# Altium integrated library Microchip Thermal Management.IntLib: 361 symbols (part 1 of 9)
Pins are listed as number, name and electrical type; pins without a type are passive.

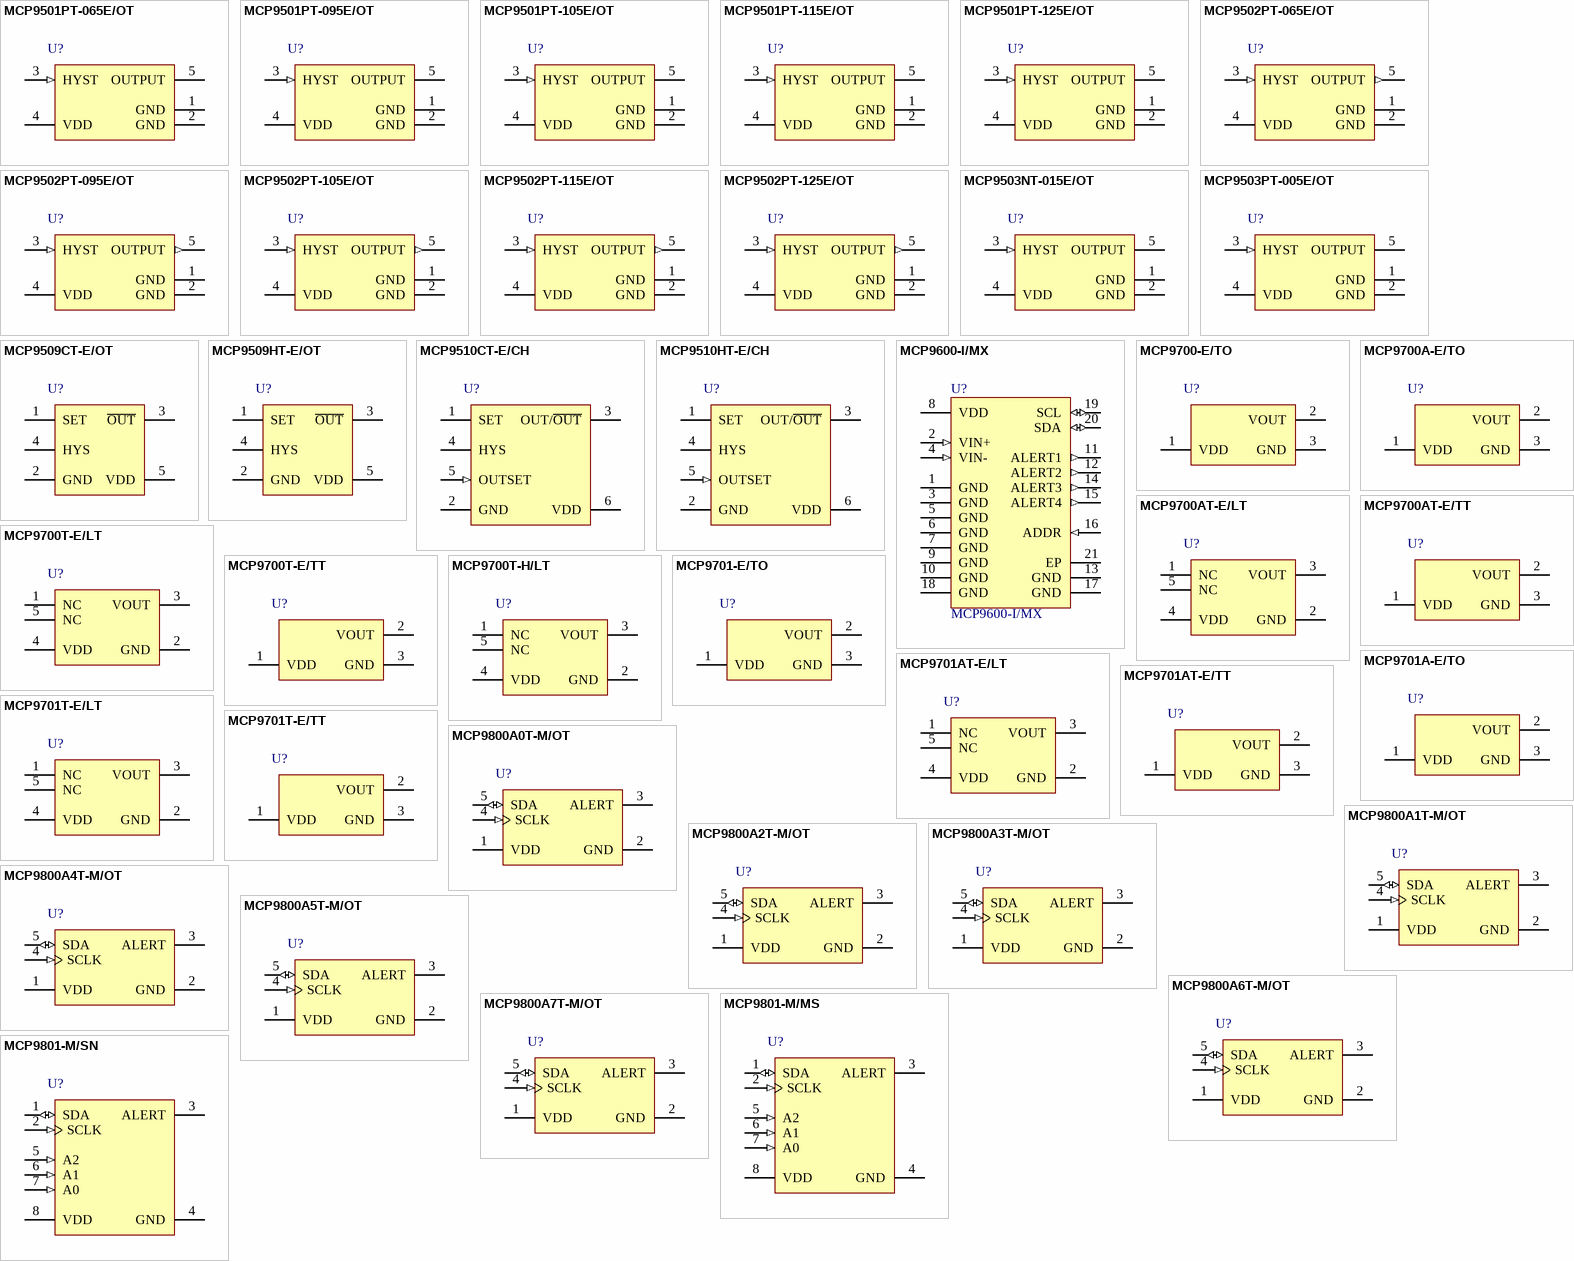
[diagram p0: symbols MCP9501PT-065E/OT to MCP9801-M/SN]

## MCP9501PT-065E/OT
designator U?
Temperature Switch with Selectable Hysteresis, 1 deg Typical Accuracy, 2.7 to 5.5 V Operating Voltage, -40 to 125 degC, 5-pin SOT-23 (OT5), Tape and Reel; Manufacturer: Microchip; PartNumber: MCP9501PT-065E/OT; DatasheetVersion: Rev. A; PackageVersion: C04-091B; PackageReference: SOT-23-OT5; PackageDescription: 5-Lead Plastic Small Outline Transistor, 2.9 x 1.55 mm Body, 0.95 mm Pitch; Supplier 1: Digi-Key; Supplier Part Number 1: MCP9501PT-065E/OTTR-ND; Mounting Technology: Surface Mount; ComponentLink1Description: Manufacturer URL; ComponentLink1URL: http://www.microchip.com; ComponentLink2Description: Datasheet; ComponentLink2URL: http://ww1.microchip.com/downloads/en/DeviceDoc/22268a.pdf; ComponentLink3Description: Package Specification; ComponentLink3URL: http://www.microchip.com/stellent/groups/techpub_sg/documents/packagingspec/en012702.pdf; ComponentLink4Description: Product URL; ComponentLink4URL: http://www.microchip.com/MCP9501
footprint MCHP-SOT-23-OT5_N (SOT23, 5-Leads, Body 2.9x1.55mm, Pitch 0.95mm, IPC Medium Density)
footprint MCHP-SOT-23-OT5_L (SOT23, 5-Leads, Body 2.9x1.55mm, Pitch 0.95mm, IPC High Density)
footprint MCHP-SOT-23-OT5_M (SOT23, 5-Leads, Body 2.9x1.55mm, Pitch 0.95mm, IPC Low Density)
pins: 1 GND (power) "Ground", 2 GND (power) "Ground (must be connected to ground)", 3 HYST (in) "Hysteresis Selection Input: HYST = GND ? Hysteresis is 2degreesC (typical) HYST = VDD ? Hysteresis is 10degreesC (typical)", 4 VDD (power) "Power pin", 5 OUTPUT (oc) "Output Options:Open-Drain, Active-Low Output"

## MCP9501PT-095E/OT
designator U?
Temperature Switch with Selectable Hysteresis, 1 deg Typical Accuracy, 2.7 to 5.5 V Operating Voltage, -40 to 125 degC, 5-pin SOT-23 (OT5), Tape and Reel; Manufacturer: Microchip; PartNumber: MCP9501PT-095E/OT; DatasheetVersion: Rev. A; PackageVersion: C04-091B; PackageReference: SOT-23-OT5; PackageDescription: 5-Lead Plastic Small Outline Transistor, 2.9 x 1.55 mm Body, 0.95 mm Pitch; Supplier 1: Digi-Key; Supplier Part Number 1: MCP9501PT-095E/OTTR-ND; Mounting Technology: Surface Mount; ComponentLink1Description: Manufacturer URL; ComponentLink1URL: http://www.microchip.com; ComponentLink2Description: Datasheet; ComponentLink2URL: http://ww1.microchip.com/downloads/en/DeviceDoc/22268a.pdf; ComponentLink3Description: Package Specification; ComponentLink3URL: http://www.microchip.com/stellent/groups/techpub_sg/documents/packagingspec/en012702.pdf; ComponentLink4Description: Product URL; ComponentLink4URL: http://www.microchip.com/MCP9501
footprint MCHP-SOT-23-OT5_N (SOT23, 5-Leads, Body 2.9x1.55mm, Pitch 0.95mm, IPC Medium Density)
footprint MCHP-SOT-23-OT5_L (SOT23, 5-Leads, Body 2.9x1.55mm, Pitch 0.95mm, IPC High Density)
footprint MCHP-SOT-23-OT5_M (SOT23, 5-Leads, Body 2.9x1.55mm, Pitch 0.95mm, IPC Low Density)
pins: 1 GND (power) "Ground", 2 GND (power) "Ground (must be connected to ground)", 3 HYST (in) "Hysteresis Selection Input: HYST = GND ? Hysteresis is 2degreesC (typical) HYST = VDD ? Hysteresis is 10degreesC (typical)", 4 VDD (power) "Power pin", 5 OUTPUT (oc) "Output Options:Open-Drain, Active-Low Output"

## MCP9501PT-105E/OT
designator U?
Temperature Switch with Selectable Hysteresis, 1 deg Typical Accuracy, 2.7 to 5.5 V Operating Voltage, -40 to 125 degC, 5-pin SOT-23 (OT5), Tape and Reel; Manufacturer: Microchip; PartNumber: MCP9501PT-105E/OT; DatasheetVersion: Rev. A; PackageVersion: C04-091B; PackageReference: SOT-23-OT5; PackageDescription: 5-Lead Plastic Small Outline Transistor, 2.9 x 1.55 mm Body, 0.95 mm Pitch; Supplier 1: Digi-Key; Supplier Part Number 1: MCP9501PT-105E/OTTR-ND; Mounting Technology: Surface Mount; ComponentLink1Description: Manufacturer URL; ComponentLink1URL: http://www.microchip.com; ComponentLink2Description: Datasheet; ComponentLink2URL: http://ww1.microchip.com/downloads/en/DeviceDoc/22268a_Final.pdf; ComponentLink3Description: Package Specification; ComponentLink3URL: http://www.microchip.com/stellent/groups/techpub_sg/documents/packagingspec/en012702.pdf; ComponentLink4Description: Product URL; ComponentLink4URL: http://www.microchip.com/MCP9501
footprint MCHP-SOT-23-OT5_N (SOT23, 5-Leads, Body 2.9x1.55mm, Pitch 0.95mm, IPC Medium Density)
footprint MCHP-SOT-23-OT5_L (SOT23, 5-Leads, Body 2.9x1.55mm, Pitch 0.95mm, IPC High Density)
footprint MCHP-SOT-23-OT5_M (SOT23, 5-Leads, Body 2.9x1.55mm, Pitch 0.95mm, IPC Low Density)
pins: 1 GND (power) "Ground", 2 GND (power) "Ground (must be connected to ground)", 3 HYST (in) "Hysteresis Selection Input: HYST = GND ? Hysteresis is 2degreesC (typical) HYST = VDD ? Hysteresis is 10degreesC (typical)", 4 VDD (power) "Power pin", 5 OUTPUT (oc) "Output Options:Open-Drain, Active-Low Output"

## MCP9501PT-115E/OT
designator U?
Temperature Switch with Selectable Hysteresis, 1 deg Typical Accuracy, 2.7 to 5.5 V Operating Voltage, -40 to 125 degC, 5-pin SOT-23 (OT5), Tape and Reel; Manufacturer: Microchip; PartNumber: MCP9501PT-115E/OT; DatasheetVersion: Rev. A; PackageVersion: C04-091B; PackageReference: SOT-23-OT5; PackageDescription: 5-Lead Plastic Small Outline Transistor, 2.9 x 1.55 mm Body, 0.95 mm Pitch; Supplier 1: Digi-Key; Supplier Part Number 1: MCP9501PT-115E/OTTR-ND; Mounting Technology: Surface Mount; ComponentLink1Description: Manufacturer URL; ComponentLink1URL: http://www.microchip.com; ComponentLink2Description: Datasheet; ComponentLink2URL: http://ww1.microchip.com/downloads/en/DeviceDoc/22268a_Final.pdf; ComponentLink3Description: Package Specification; ComponentLink3URL: http://www.microchip.com/stellent/groups/techpub_sg/documents/packagingspec/en012702.pdf; ComponentLink4Description: Product URL; ComponentLink4URL: http://www.microchip.com/MCP9501
footprint MCHP-SOT-23-OT5_N (SOT23, 5-Leads, Body 2.9x1.55mm, Pitch 0.95mm, IPC Medium Density)
footprint MCHP-SOT-23-OT5_L (SOT23, 5-Leads, Body 2.9x1.55mm, Pitch 0.95mm, IPC High Density)
footprint MCHP-SOT-23-OT5_M (SOT23, 5-Leads, Body 2.9x1.55mm, Pitch 0.95mm, IPC Low Density)
pins: 1 GND (power) "Ground", 2 GND (power) "Ground (must be connected to ground)", 3 HYST (in) "Hysteresis Selection Input: HYST = GND ? Hysteresis is 2degreesC (typical) HYST = VDD ? Hysteresis is 10degreesC (typical)", 4 VDD (power) "Power pin", 5 OUTPUT (oc) "Output Options:Open-Drain, Active-Low Output"

## MCP9501PT-125E/OT
designator U?
Temperature Switch with Selectable Hysteresis, 1 deg Typical Accuracy, 2.7 to 5.5 V Operating Voltage, -40 to 125 degC, 5-pin SOT-23 (OT5), Tape and Reel; Manufacturer: Microchip; PartNumber: MCP9501PT-125E/OT; DatasheetVersion: Rev. A; PackageVersion: C04-091B; PackageReference: SOT-23-OT5; PackageDescription: 5-Lead Plastic Small Outline Transistor, 2.9 x 1.55 mm Body, 0.95 mm Pitch; Supplier 1: Digi-Key; Supplier Part Number 1: MCP9501PT-125E/OTTR-ND; Mounting Technology: Surface Mount; ComponentLink1Description: Manufacturer URL; ComponentLink1URL: http://www.microchip.com; ComponentLink2Description: Datasheet; ComponentLink2URL: http://ww1.microchip.com/downloads/en/DeviceDoc/22268a_Final.pdf; ComponentLink3Description: Package Specification; ComponentLink3URL: http://www.microchip.com/stellent/groups/techpub_sg/documents/packagingspec/en012702.pdf; ComponentLink4Description: Product URL; ComponentLink4URL: http://www.microchip.com/MCP9501
footprint MCHP-SOT-23-OT5_N (SOT23, 5-Leads, Body 2.9x1.55mm, Pitch 0.95mm, IPC Medium Density)
footprint MCHP-SOT-23-OT5_L (SOT23, 5-Leads, Body 2.9x1.55mm, Pitch 0.95mm, IPC High Density)
footprint MCHP-SOT-23-OT5_M (SOT23, 5-Leads, Body 2.9x1.55mm, Pitch 0.95mm, IPC Low Density)
pins: 1 GND (power) "Ground", 2 GND (power) "Ground (must be connected to ground)", 3 HYST (in) "Hysteresis Selection Input: HYST = GND ? Hysteresis is 2degreesC (typical) HYST = VDD ? Hysteresis is 10degreesC (typical)", 4 VDD (power) "Power pin", 5 OUTPUT (oc) "Output Options:Open-Drain, Active-Low Output"

## MCP9502PT-065E/OT
designator U?
Temperature Switch with Selectable Hysteresis, 1 deg Typical Accuracy, 2.7 to 5.5 V Operating Voltage, -40 to 125 degC, 5-pin SOT-23 (OT5), Tape and Reel; Manufacturer: Microchip; PartNumber: MCP9502PT-065E/OT; DatasheetVersion: Rev. A; PackageVersion: C04-091B; PackageReference: SOT-23-OT5; PackageDescription: 5-Lead Plastic Small Outline Transistor, 2.9 x 1.55 mm Body, 0.95 mm Pitch; Supplier 1: Digi-Key; Supplier Part Number 1: MCP9502PT-065E/OTTR-ND; Mounting Technology: Surface Mount; ComponentLink1Description: Manufacturer URL; ComponentLink1URL: http://www.microchip.com; ComponentLink2Description: Datasheet; ComponentLink2URL: http://ww1.microchip.com/downloads/en/DeviceDoc/22268a.pdf; ComponentLink3Description: Package Specification; ComponentLink3URL: http://www.microchip.com/stellent/groups/techpub_sg/documents/packagingspec/en012702.pdf; ComponentLink4Description: Product URL; ComponentLink4URL: http://www.microchip.com/MCP9502
footprint MCHP-SOT-23-OT5_N (SOT23, 5-Leads, Body 2.9x1.55mm, Pitch 0.95mm, IPC Medium Density)
footprint MCHP-SOT-23-OT5_L (SOT23, 5-Leads, Body 2.9x1.55mm, Pitch 0.95mm, IPC High Density)
footprint MCHP-SOT-23-OT5_M (SOT23, 5-Leads, Body 2.9x1.55mm, Pitch 0.95mm, IPC Low Density)
pins: 1 GND (power) "Ground", 2 GND (power) "Ground (must be connected to ground)", 3 HYST (in) "Hysteresis Selection Input: HYST = GND ? Hysteresis is 2degreesC (typical) HYST = VDD ? Hysteresis is 10degreesC (typical)", 4 VDD (power) "Power pin", 5 OUTPUT (out) "Output Options:Push-Pull, Active-High Output (Hot-Option)"

## MCP9502PT-095E/OT
designator U?
Temperature Switch with Selectable Hysteresis, 1 deg Typical Accuracy, 2.7 to 5.5 V Operating Voltage, -40 to 125 degC, 5-pin SOT-23 (OT5), Tape and Reel; Manufacturer: Microchip; PartNumber: MCP9502PT-095E/OT; DatasheetVersion: Rev. A; PackageVersion: C04-091B; PackageReference: SOT-23-OT5; PackageDescription: 5-Lead Plastic Small Outline Transistor, 2.9 x 1.55 mm Body, 0.95 mm Pitch; Supplier 1: Digi-Key; Supplier Part Number 1: MCP9502PT-095E/OTTR-ND; Mounting Technology: Surface Mount; ComponentLink1Description: Manufacturer URL; ComponentLink1URL: http://www.microchip.com; ComponentLink2Description: Datasheet; ComponentLink2URL: http://ww1.microchip.com/downloads/en/DeviceDoc/22268a_Final.pdf; ComponentLink3Description: Package Specification; ComponentLink3URL: http://www.microchip.com/stellent/groups/techpub_sg/documents/packagingspec/en012702.pdf; ComponentLink4Description: Product URL; ComponentLink4URL: http://www.microchip.com/MCP9502
footprint MCHP-SOT-23-OT5_N (SOT23, 5-Leads, Body 2.9x1.55mm, Pitch 0.95mm, IPC Medium Density)
footprint MCHP-SOT-23-OT5_L (SOT23, 5-Leads, Body 2.9x1.55mm, Pitch 0.95mm, IPC High Density)
footprint MCHP-SOT-23-OT5_M (SOT23, 5-Leads, Body 2.9x1.55mm, Pitch 0.95mm, IPC Low Density)
pins: 1 GND (power) "Ground", 2 GND (power) "Ground (must be connected to ground)", 3 HYST (in) "Hysteresis Selection Input: HYST = GND ? Hysteresis is 2degreesC (typical) HYST = VDD ? Hysteresis is 10degreesC (typical)", 4 VDD (power) "Power pin", 5 OUTPUT (out) "Output Options:Push-Pull, Active-High Output (Hot-Option)"

## MCP9502PT-105E/OT
designator U?
Temperature Switch with Selectable Hysteresis, 1 deg Typical Accuracy, 2.7 to 5.5 V Operating Voltage, -40 to 125 degC, 5-pin SOT-23 (OT5), Tape and Reel; Manufacturer: Microchip; PartNumber: MCP9502PT-105E/OT; DatasheetVersion: Rev. A; PackageVersion: C04-091B; PackageReference: SOT-23-OT5; PackageDescription: 5-Lead Plastic Small Outline Transistor, 2.9 x 1.55 mm Body, 0.95 mm Pitch; Supplier 1: Digi-Key; Supplier Part Number 1: MCP9502PT-105E/OTTR-ND; Mounting Technology: Surface Mount; ComponentLink1Description: Manufacturer URL; ComponentLink1URL: http://www.microchip.com; ComponentLink2Description: Datasheet; ComponentLink2URL: http://ww1.microchip.com/downloads/en/DeviceDoc/22268a_Final.pdf; ComponentLink3Description: Package Specification; ComponentLink3URL: http://www.microchip.com/stellent/groups/techpub_sg/documents/packagingspec/en012702.pdf; ComponentLink4Description: Product URL; ComponentLink4URL: http://www.microchip.com/MCP9502
footprint MCHP-SOT-23-OT5_N (SOT23, 5-Leads, Body 2.9x1.55mm, Pitch 0.95mm, IPC Medium Density)
footprint MCHP-SOT-23-OT5_L (SOT23, 5-Leads, Body 2.9x1.55mm, Pitch 0.95mm, IPC High Density)
footprint MCHP-SOT-23-OT5_M (SOT23, 5-Leads, Body 2.9x1.55mm, Pitch 0.95mm, IPC Low Density)
pins: 1 GND (power) "Ground", 2 GND (power) "Ground (must be connected to ground)", 3 HYST (in) "Hysteresis Selection Input: HYST = GND ? Hysteresis is 2degreesC (typical) HYST = VDD ? Hysteresis is 10degreesC (typical)", 4 VDD (power) "Power pin", 5 OUTPUT (out) "Output Options:Push-Pull, Active-High Output (Hot-Option)"

## MCP9502PT-115E/OT
designator U?
Temperature Switch with Selectable Hysteresis, 1 deg Typical Accuracy, 2.7 to 5.5 V Operating Voltage, -40 to 125 degC, 5-pin SOT-23 (OT5), Tape and Reel; Manufacturer: Microchip; PartNumber: MCP9502PT-115E/OT; DatasheetVersion: Rev. A; PackageVersion: C04-091B; PackageReference: SOT-23-OT5; PackageDescription: 5-Lead Plastic Small Outline Transistor, 2.9 x 1.55 mm Body, 0.95 mm Pitch; Supplier 1: Digi-Key; Supplier Part Number 1: MCP9502PT-115E/OTTR-ND; Mounting Technology: Surface Mount; ComponentLink1Description: Manufacturer URL; ComponentLink1URL: http://www.microchip.com; ComponentLink2Description: Datasheet; ComponentLink2URL: http://ww1.microchip.com/downloads/en/DeviceDoc/22268a_Final.pdf; ComponentLink3Description: Package Specification; ComponentLink3URL: http://www.microchip.com/stellent/groups/techpub_sg/documents/packagingspec/en012702.pdf; ComponentLink4Description: Product URL; ComponentLink4URL: http://www.microchip.com/MCP9502
footprint MCHP-SOT-23-OT5_N (SOT23, 5-Leads, Body 2.9x1.55mm, Pitch 0.95mm, IPC Medium Density)
footprint MCHP-SOT-23-OT5_L (SOT23, 5-Leads, Body 2.9x1.55mm, Pitch 0.95mm, IPC High Density)
footprint MCHP-SOT-23-OT5_M (SOT23, 5-Leads, Body 2.9x1.55mm, Pitch 0.95mm, IPC Low Density)
pins: 1 GND (power) "Ground", 2 GND (power) "Ground (must be connected to ground)", 3 HYST (in) "Hysteresis Selection Input: HYST = GND ? Hysteresis is 2degreesC (typical) HYST = VDD ? Hysteresis is 10degreesC (typical)", 4 VDD (power) "Power pin", 5 OUTPUT (out) "Output Options:Push-Pull, Active-High Output (Hot-Option)"

## MCP9502PT-125E/OT
designator U?
Temperature Switch with Selectable Hysteresis, 1 deg Typical Accuracy, 2.7 to 5.5 V Operating Voltage, -40 to 125 degC, 5-pin SOT-23 (OT5), Tape and Reel; Manufacturer: Microchip; PartNumber: MCP9502PT-125E/OT; DatasheetVersion: Rev. A; PackageVersion: C04-091B; PackageReference: SOT-23-OT5; PackageDescription: 5-Lead Plastic Small Outline Transistor, 2.9 x 1.55 mm Body, 0.95 mm Pitch; Supplier 1: Digi-Key; Supplier Part Number 1: MCP9502PT-125E/OTTR-ND; Mounting Technology: Surface Mount; ComponentLink1Description: Manufacturer URL; ComponentLink1URL: http://www.microchip.com; ComponentLink2Description: Datasheet; ComponentLink2URL: http://ww1.microchip.com/downloads/en/DeviceDoc/22268a.pdf; ComponentLink3Description: Package Specification; ComponentLink3URL: http://www.microchip.com/stellent/groups/techpub_sg/documents/packagingspec/en012702.pdf; ComponentLink4Description: Product URL; ComponentLink4URL: http://www.microchip.com/MCP9502
footprint MCHP-SOT-23-OT5_N (SOT23, 5-Leads, Body 2.9x1.55mm, Pitch 0.95mm, IPC Medium Density)
footprint MCHP-SOT-23-OT5_L (SOT23, 5-Leads, Body 2.9x1.55mm, Pitch 0.95mm, IPC High Density)
footprint MCHP-SOT-23-OT5_M (SOT23, 5-Leads, Body 2.9x1.55mm, Pitch 0.95mm, IPC Low Density)
pins: 1 GND (power) "Ground", 2 GND (power) "Ground (must be connected to ground)", 3 HYST (in) "Hysteresis Selection Input: HYST = GND ? Hysteresis is 2degreesC (typical) HYST = VDD ? Hysteresis is 10degreesC (typical)", 4 VDD (power) "Power pin", 5 OUTPUT (out) "Output Options:Push-Pull, Active-High Output (Hot-Option)"

## MCP9503NT-015E/OT
designator U?
Temperature Switch with Selectable Hysteresis, 1 deg Typical Accuracy, 2.7 to 5.5 V Operating Voltage, -40 to 125 degC, 5-pin SOT-23 (OT5), Tape and Reel; Manufacturer: Microchip; PartNumber: MCP9503NT-015E/OT; DatasheetVersion: Rev. A; PackageVersion: C04-091B; PackageReference: SOT-23-OT5; PackageDescription: 5-Lead Plastic Small Outline Transistor, 2.9 x 1.55 mm Body, 0.95 mm Pitch; Supplier 1: Digi-Key; Supplier Part Number 1: MCP9503NT-015E/OTTR-ND; Mounting Technology: Surface Mount; ComponentLink1Description: Manufacturer URL; ComponentLink1URL: http://www.microchip.com; ComponentLink2Description: Datasheet; ComponentLink2URL: http://ww1.microchip.com/downloads/en/DeviceDoc/22268a_Final.pdf; ComponentLink3Description: Package Specification; ComponentLink3URL: http://www.microchip.com/stellent/groups/techpub_sg/documents/packagingspec/en012702.pdf; ComponentLink4Description: Product URL; ComponentLink4URL: http://www.microchip.com/MCP9503
footprint MCHP-SOT-23-OT5_N (SOT23, 5-Leads, Body 2.9x1.55mm, Pitch 0.95mm, IPC Medium Density)
footprint MCHP-SOT-23-OT5_L (SOT23, 5-Leads, Body 2.9x1.55mm, Pitch 0.95mm, IPC High Density)
footprint MCHP-SOT-23-OT5_M (SOT23, 5-Leads, Body 2.9x1.55mm, Pitch 0.95mm, IPC Low Density)
pins: 1 GND (power) "Ground", 2 GND (power) "Ground (must be connected to ground)", 3 HYST (in) "Hysteresis Selection Input: HYST = GND ? Hysteresis is 2degreesC (typical) HYST = VDD ? Hysteresis is 10degreesC (typical)", 4 VDD (power) "Power pin", 5 OUTPUT (oc) "Output Options:Open-Drain, Active-Low Output"

## MCP9503PT-005E/OT
designator U?
Temperature Switch with Selectable Hysteresis, 1 deg Typical Accuracy, 2.7 to 5.5 V Operating Voltage, -40 to 125 degC, 5-pin SOT-23 (OT5), Tape and Reel; Manufacturer: Microchip; PartNumber: MCP9503PT-005E/OT; DatasheetVersion: Rev. A; PackageVersion: C04-091B; PackageReference: SOT-23-OT5; PackageDescription: 5-Lead Plastic Small Outline Transistor, 2.9 x 1.55 mm Body, 0.95 mm Pitch; Supplier 1: Digi-Key; Supplier Part Number 1: MCP9503PT-005E/OTTR-ND; Mounting Technology: Surface Mount; ComponentLink1Description: Manufacturer URL; ComponentLink1URL: http://www.microchip.com; ComponentLink2Description: Datasheet; ComponentLink2URL: http://ww1.microchip.com/downloads/en/DeviceDoc/22268a.pdf; ComponentLink3Description: Package Specification; ComponentLink3URL: http://www.microchip.com/stellent/groups/techpub_sg/documents/packagingspec/en012702.pdf; ComponentLink4Description: Product URL; ComponentLink4URL: http://www.microchip.com/MCP9503
footprint MCHP-SOT-23-OT5_N (SOT23, 5-Leads, Body 2.9x1.55mm, Pitch 0.95mm, IPC Medium Density)
footprint MCHP-SOT-23-OT5_L (SOT23, 5-Leads, Body 2.9x1.55mm, Pitch 0.95mm, IPC High Density)
footprint MCHP-SOT-23-OT5_M (SOT23, 5-Leads, Body 2.9x1.55mm, Pitch 0.95mm, IPC Low Density)
pins: 1 GND (power) "Ground", 2 GND (power) "Ground (must be connected to ground)", 3 HYST (in) "Hysteresis Selection Input: HYST = GND ? Hysteresis is 2degreesC (typical) HYST = VDD ? Hysteresis is 10degreesC (typical)", 4 VDD (power) "Power pin", 5 OUTPUT (oc) "Output Options:Open-Drain, Active-Low Output"

## MCP9509CT-E/OT
designator U?
Resistor-Programmable Temperature Switch, Hot to Cold, 5-Pin SOT-23, Extended Temperature, Tape and Reel; Manufacturer: Microchip; PartNumber: MCP9509CT-E/OT; DatasheetVersion: revA, Nov-2008; PackageVersion: revBB, Aug-2009; PackageReference: SOT-23-OT5; PackageDescription: 5-Lead Plastic Small Outline Transistor (OT) [SOT-23]; Supplier 1: Digi-Key; Supplier Part Number 1: MCP9509CT-E/OTTR-ND; Mounting Technology: Surface Mount; Code_IPC: SOT23-5; ComponentLink1Description: Manufacturer URL; ComponentLink1URL: http://www.microchip.com/; ComponentLink2Description: Datasheet; ComponentLink2URL: http://ww1.microchip.com/downloads/en/DeviceDoc/22114a.pdf; ComponentLink3Description: Package Specification; ComponentLink3URL: http://www.microchip.com/stellent/groups/techpub_sg/documents/packagingspec/en012702.pdf
footprint SOT-23-OT5_N (SOT23, 5-Leads, Body 2.9x1.6mm, Pitch 0.95mm, Lead Span 2.7mm, IPC Medium Density)
footprint SOT-23-OT5_L (SOT23, 5-Leads, Body 2.9x1.6mm, Pitch 0.95mm, Lead Span 2.7mm, IPC High Density)
footprint SOT-23-OT5_M (SOT23, 5-Leads, Body 2.9x1.6mm, Pitch 0.95mm, Lead Span 2.7mm, IPC Low Density)
pins: 1 SET, 2 GND (power), 3 ~{OUT} (oc), 4 HYS, 5 VDD (power)

## MCP9509HT-E/OT
designator U?
Resistor-Programmable Temperature Switch, Cold to Hot, 5-Pin SOT-23, Extended Temperature, Tape and Reel; Manufacturer: Microchip; PartNumber: MCP9509HT-E/OT; DatasheetVersion: revA, Nov-2008; PackageVersion: revBB, Aug-2009; PackageReference: SOT-23-OT5; PackageDescription: 5-Lead Plastic Small Outline Transistor (OT) [SOT-23]; Supplier 1: Digi-Key; Supplier Part Number 1: MCP9509HT-E/OTTR-ND; Mounting Technology: Surface Mount; Code_IPC: SOT23-5; ComponentLink1Description: Manufacturer URL; ComponentLink1URL: http://www.microchip.com/; ComponentLink2Description: Datasheet; ComponentLink2URL: http://ww1.microchip.com/downloads/en/DeviceDoc/22114a.pdf; ComponentLink3Description: Package Specification; ComponentLink3URL: http://www.microchip.com/stellent/groups/techpub_sg/documents/packagingspec/en012702.pdf
footprint SOT-23-OT5_N (SOT23, 5-Leads, Body 2.9x1.6mm, Pitch 0.95mm, Lead Span 2.7mm, IPC Medium Density)
footprint SOT-23-OT5_L (SOT23, 5-Leads, Body 2.9x1.6mm, Pitch 0.95mm, Lead Span 2.7mm, IPC High Density)
footprint SOT-23-OT5_M (SOT23, 5-Leads, Body 2.9x1.6mm, Pitch 0.95mm, Lead Span 2.7mm, IPC Low Density)
pins: 1 SET, 2 GND (power), 3 ~{OUT} (oc), 4 HYS, 5 VDD (power)

## MCP9510CT-E/CH
designator U?
Resistor-Programmable Temperature Switch, Hot to Cold, 6-Pin SOT-23, Extended Temperature, Tape and Reel; Manufacturer: Microchip; PartNumber: MCP9510CT-E/CH; DatasheetVersion: revA, Nov-2008; PackageVersion: revBB, Aug-2009; PackageReference: SOT-23-CH6; PackageDescription: 6-Lead Plastic Small Outline Transistor (CH) [SOT-23]; Supplier 1: Digi-Key; Supplier Part Number 1: MCP9510CT-E/CHTR-ND; Mounting Technology: Surface Mount; Code_IPC: SOT26A-6; ComponentLink1Description: Manufacturer URL; ComponentLink1URL: http://www.microchip.com/; ComponentLink2Description: Datasheet; ComponentLink2URL: http://ww1.microchip.com/downloads/en/DeviceDoc/22114a.pdf; ComponentLink3Description: Package Specification; ComponentLink3URL: http://www.microchip.com/stellent/groups/techpub_sg/documents/packagingspec/en012702.pdf
footprint SOT-23-CH6_N (SOT23, 6-Leads, Body 2.9x1.6mm, Pitch 0.95mm, Lead Span 2.7mm, IPC Medium Density)
footprint SOT-23-CH6_L (SOT23, 6-Leads, Body 2.9x1.6mm, Pitch 0.95mm, Lead Span 2.7mm, IPC High Density)
footprint SOT-23-CH6_M (SOT23, 6-Leads, Body 2.9x1.6mm, Pitch 0.95mm, Lead Span 2.7mm, IPC Low Density)
pins: 1 SET, 2 GND (power), 3 OUT/~{OUT} (oc), 4 HYS, 5 OUTSET (in), 6 VDD (power)

## MCP9510HT-E/CH
designator U?
Resistor-Programmable Temperature Switch, Cold to Hot, 6-Pin SOT-23, Extended Temperature, Tape and Reel; Manufacturer: Microchip; PartNumber: MCP9510HT-E/CH; DatasheetVersion: revA, Nov-2008; PackageVersion: revBB, Aug-2009; PackageReference: SOT-23-CH6; PackageDescription: 6-Lead Plastic Small Outline Transistor (CH) [SOT-23]; Supplier 1: Digi-Key; Supplier Part Number 1: MCP9510HT-E/CHTR-ND; Mounting Technology: Surface Mount; Code_IPC: SOT26A-6; ComponentLink1Description: Manufacturer URL; ComponentLink1URL: http://www.microchip.com/; ComponentLink2Description: Datasheet; ComponentLink2URL: http://ww1.microchip.com/downloads/en/DeviceDoc/22114a.pdf; ComponentLink3Description: Package Specification; ComponentLink3URL: http://www.microchip.com/stellent/groups/techpub_sg/documents/packagingspec/en012702.pdf
footprint SOT-23-CH6_N (SOT23, 6-Leads, Body 2.9x1.6mm, Pitch 0.95mm, Lead Span 2.7mm, IPC Medium Density)
footprint SOT-23-CH6_L (SOT23, 6-Leads, Body 2.9x1.6mm, Pitch 0.95mm, Lead Span 2.7mm, IPC High Density)
footprint SOT-23-CH6_M (SOT23, 6-Leads, Body 2.9x1.6mm, Pitch 0.95mm, Lead Span 2.7mm, IPC Low Density)
pins: 1 SET, 2 GND (power), 3 OUT/~{OUT} (oc), 4 HYS, 5 OUTSET (in), 6 VDD (power)

## MCP9600-I/MX
designator U?
MICROCHIP         MCP9600-I/MX.             THERMOCOUPLE EMF TO TEMP CONV, VQFN-20; Interface: I2C; Operating Supply Current: 300uA; Min Supply Voltage: 2.7V; Max Supply Voltage: 5.5V; Output Type: Digital; Supplier 1: Digi-Key; Manufacturer: Microchip; Manufacturer Part Number: MCP9600-I/MX; Stock 1: 2745; Pricing 1: 1=5.18, 25=4.3248, 100=3.9326 (USD); Mount: Surface Mount; Case/Package: VQFN; Number of Pins: 20; Min Operating Temperature: -40°C; Max Operating Temperature: 85°C; Packaging: Rail/Tube; REACH SVHC: No SVHC; Lead Free: Lead Free; ComponentLink1URL: http://www.mouser.com/ds/2/268/20005426B-961702.pdf; ComponentLink1Description: http://www.mouser.com/ds/2/268/20005426B-961702.pdf; ComponentLink2URL: http://www.farnell.com/datasheets/1972238.pdf; ComponentLink2Description: http://www.farnell.com/datasheets/1972238.pdf; ComponentLink3URL: http://www.microchip.com/mymicrochip/filehandler.aspx?ddocname=en576038; ComponentLink3Description: http://www.microchip.com/mymicrochip/filehandler.aspx?ddocname=en576038; Supplier Part Number 1: MCP9600-I/MX-ND; Value: MCP9600-I/MX
footprint VQFN-20 (QFN, 20-Leads, Body 5,00x5,00mm, Pitch 0,65mm, Thermal Pad 3,25x3,25mm, IPC Medium Density)
footprint VQFN-20-UPDATE (QFN, 20-Leads, Body 5,00x5,00mm, Pitch 0,65mm, Thermal Pad 3,25x3,25mm, IPC Medium Density)
pins: 1 GND, 2 VIN+ (in), 3 GND, 4 VIN- (in), 5 GND, 6 GND, 7 GND, 8 VDD, 9 GND, 10 GND, 11 ALERT1 (out), 12 ALERT2 (out), 13 GND, 14 ALERT3 (out), 15 ALERT4 (out), 16 ADDR (in), 17 GND, 18 GND, 19 SCL (io), 20 SDA (io), 21 EP

## MCP9700-E/TO
designator U?
Low-Power Linear Active Thermistor IC, 3-Pin TO-92, Extended Temperature; Manufacturer: Microchip; PartNumber: MCP9700-E/TO; DatasheetVersion: revE, Apr-2009; PackageVersion: revBB, Aug-2009; PackageReference: TO-92-TO3; PackageDescription: 3-Lead Plastic Transistor Outline (TO) [TO-92]; Supplier 1: Digi-Key; Supplier Part Number 1: MCP9700-E/TO-ND; Mounting Technology: Through Hole; ComponentLink1Description: Manufacturer URL; ComponentLink1URL: http://www.microchip.com/; ComponentLink2Description: Datasheet; ComponentLink2URL: http://ww1.microchip.com/downloads/en/DeviceDoc/21942e.pdf; ComponentLink3Description: Package Specification; ComponentLink3URL: http://www.microchip.com/stellent/groups/techpub_sg/documents/packagingspec/en012702.pdf
footprint TO-92-TO3 (TO, Flat Index; 3 In-Line, Axial Leads; Body Dia. 4.8mm; Leads 0.56 x 0.53 mm (max))
pins: 1 VDD (power), 2 VOUT (power), 3 GND (power)

## MCP9700A-E/TO
designator U?
Low-Power Linear Active Thermistor IC, 3-Pin TO-92, Extended Temperature; Manufacturer: Microchip; PartNumber: MCP9700A-E/TO; DatasheetVersion: revE, Apr-2009; PackageVersion: revBB, Aug-2009; PackageReference: TO-92-TO3; PackageDescription: 3-Lead Plastic Transistor Outline (TO) [TO-92]; Supplier 1: Digi-Key; Supplier Part Number 1: MCP9700A-E/TO-ND; Mounting Technology: Through Hole; ComponentLink1Description: Manufacturer URL; ComponentLink1URL: http://www.microchip.com/; ComponentLink2Description: Datasheet; ComponentLink2URL: http://ww1.microchip.com/downloads/en/DeviceDoc/21942e.pdf; ComponentLink3Description: Package Specification; ComponentLink3URL: http://www.microchip.com/stellent/groups/techpub_sg/documents/packagingspec/en012702.pdf
footprint TO-92-TO3 (TO, Flat Index; 3 In-Line, Axial Leads; Body Dia. 4.8mm; Leads 0.56 x 0.53 mm (max))
pins: 1 VDD (power), 2 VOUT (power), 3 GND (power)

## MCP9700AT-E/LT
designator U?
Low-Power Linear Active Thermistor IC, 5-Pin SC-70, Extended Temperature, Tape and Reel; Manufacturer: Microchip; PartNumber: MCP9700AT-E/LT; DatasheetVersion: revE, Apr-2009; PackageVersion: revBB, Aug-2009; PackageReference: SC70-LT5; PackageDescription: 5-Lead Plastic Small Outline Transistor (LT) [SC70]; Supplier 1: Digi-Key; Supplier Part Number 1: MCP9700AT-E/LTTR-ND; Mounting Technology: Surface Mount; Code_IPC: SOT353-5; ComponentLink1Description: Manufacturer URL; ComponentLink1URL: http://www.microchip.com/; ComponentLink2Description: Datasheet; ComponentLink2URL: http://ww1.microchip.com/downloads/en/DeviceDoc/21942e.pdf; ComponentLink3Description: Package Specification; ComponentLink3URL: http://www.microchip.com/stellent/groups/techpub_sg/documents/packagingspec/en012702.pdf
footprint SC70-LT5_N (SOT353, 5-Leads, Body 2x1.3mm, Pitch 0.65mm, Lead Span 2.1mm, IPC Medium Density)
footprint SC70-LT5_L (SOT353, 5-Leads, Body 2x1.3mm, Pitch 0.65mm, Lead Span 2.1mm, IPC High Density)
footprint SC70-LT5_M (SOT353, 5-Leads, Body 2x1.3mm, Pitch 0.65mm, Lead Span 2.1mm, IPC Low Density)
pins: 1 NC, 2 GND (power), 3 VOUT (power), 4 VDD (power), 5 NC

## MCP9700AT-E/TT
designator U?
Low-Power Linear Active Thermistor IC, 3-Pin SOT-23, Extended Temperature, Tape and Reel; Manufacturer: Microchip; PartNumber: MCP9700AT-E/TT; DatasheetVersion: revE, Apr-2009; PackageVersion: revBB, Aug-2009; PackageReference: SOT-23-TT3; PackageDescription: 3-Lead Plastic Small Outline Transistor (TT) [SOT-23]; Supplier 1: Digi-Key; Supplier Part Number 1: MCP9700AT-E/TTTR-ND; Mounting Technology: Surface Mount; Code_IPC: SOT23-3; ComponentLink1Description: Manufacturer URL; ComponentLink1URL: http://www.microchip.com/; ComponentLink2Description: Datasheet; ComponentLink2URL: http://ww1.microchip.com/downloads/en/DeviceDoc/21942e.pdf; ComponentLink3Description: Package Specification; ComponentLink3URL: http://www.microchip.com/stellent/groups/techpub_sg/documents/packagingspec/en012702.pdf
footprint SOT-23-TT3_N (SOT23, 3-Leads, Body 2.9x1.3mm, Pitch 0.95mm, Lead Span 2.4mm, IPC Medium Density)
footprint SOT-23-TT3_L (SOT23, 3-Leads, Body 2.9x1.3mm, Pitch 0.95mm, Lead Span 2.4mm, IPC High Density)
footprint SOT-23-TT3_M (SOT23, 3-Leads, Body 2.9x1.3mm, Pitch 0.95mm, Lead Span 2.4mm, IPC Low Density)
pins: 1 VDD (power), 2 VOUT (power), 3 GND (power)

## MCP9700T-E/LT
designator U?
Low-Power Linear Active Thermistor IC, 5-Pin SC-70, Extended Temperature, Tape and Reel; Manufacturer: Microchip; PartNumber: MCP9700T-E/LT; DatasheetVersion: revE, Apr-2009; PackageVersion: revBB, Aug-2009; PackageReference: SC70-LT5; PackageDescription: 5-Lead Plastic Small Outline Transistor (LT) [SC70]; Supplier 1: Digi-Key; Supplier Part Number 1: MCP9700T-E/LTTR-ND; Mounting Technology: Surface Mount; Code_IPC: SOT353-5; ComponentLink1Description: Manufacturer URL; ComponentLink1URL: http://www.microchip.com/; ComponentLink2Description: Datasheet; ComponentLink2URL: http://ww1.microchip.com/downloads/en/DeviceDoc/21942e.pdf; ComponentLink3Description: Package Specification; ComponentLink3URL: http://www.microchip.com/stellent/groups/techpub_sg/documents/packagingspec/en012702.pdf
footprint SC70-LT5_N (SOT353, 5-Leads, Body 2x1.3mm, Pitch 0.65mm, Lead Span 2.1mm, IPC Medium Density)
footprint SC70-LT5_L (SOT353, 5-Leads, Body 2x1.3mm, Pitch 0.65mm, Lead Span 2.1mm, IPC High Density)
footprint SC70-LT5_M (SOT353, 5-Leads, Body 2x1.3mm, Pitch 0.65mm, Lead Span 2.1mm, IPC Low Density)
pins: 1 NC, 2 GND (power), 3 VOUT (power), 4 VDD (power), 5 NC

## MCP9700T-E/TT
designator U?
Low-Power Linear Active Thermistor IC, 3-Pin SOT-23, Extended Temperature, Tape and Reel; Manufacturer: Microchip; PartNumber: MCP9700T-E/TT; DatasheetVersion: revE, Apr-2009; PackageVersion: revBB, Aug-2009; PackageReference: SOT-23-TT3; PackageDescription: 3-Lead Plastic Small Outline Transistor (TT) [SOT-23]; Supplier 1: Digi-Key; Supplier Part Number 1: MCP9700T-E/TTTR-ND; Mounting Technology: Surface Mount; Code_IPC: SOT23-3; ComponentLink1Description: Manufacturer URL; ComponentLink1URL: http://www.microchip.com/; ComponentLink2Description: Datasheet; ComponentLink2URL: http://ww1.microchip.com/downloads/en/DeviceDoc/21942e.pdf; ComponentLink3Description: Package Specification; ComponentLink3URL: http://www.microchip.com/stellent/groups/techpub_sg/documents/packagingspec/en012702.pdf
footprint SOT-23-TT3_N (SOT23, 3-Leads, Body 2.9x1.3mm, Pitch 0.95mm, Lead Span 2.4mm, IPC Medium Density)
footprint SOT-23-TT3_L (SOT23, 3-Leads, Body 2.9x1.3mm, Pitch 0.95mm, Lead Span 2.4mm, IPC High Density)
footprint SOT-23-TT3_M (SOT23, 3-Leads, Body 2.9x1.3mm, Pitch 0.95mm, Lead Span 2.4mm, IPC Low Density)
pins: 1 VDD (power), 2 VOUT (power), 3 GND (power)

## MCP9700T-H/LT
designator U?
Low-Power Linear Active Thermistor IC, 5-Pin SC-70, High Temperature, Tape and Reel; Manufacturer: Microchip; PartNumber: MCP9700T-H/LT; DatasheetVersion: revE, Apr-2009; PackageVersion: revBB, Aug-2009; PackageReference: SC70-LT5; PackageDescription: 5-Lead Plastic Small Outline Transistor (LT) [SC70]; Supplier 1: Digi-Key; Supplier Part Number 1: MCP9700T-H/LT-ND; Mounting Technology: Surface Mount; Code_IPC: SOT353-5; ComponentLink1Description: Manufacturer URL; ComponentLink1URL: http://www.microchip.com/; ComponentLink2Description: Datasheet; ComponentLink2URL: http://ww1.microchip.com/downloads/en/DeviceDoc/21942e.pdf; ComponentLink3Description: Package Specification; ComponentLink3URL: http://www.microchip.com/stellent/groups/techpub_sg/documents/packagingspec/en012702.pdf
footprint SC70-LT5_N (SOT353, 5-Leads, Body 2x1.3mm, Pitch 0.65mm, Lead Span 2.1mm, IPC Medium Density)
footprint SC70-LT5_L (SOT353, 5-Leads, Body 2x1.3mm, Pitch 0.65mm, Lead Span 2.1mm, IPC High Density)
footprint SC70-LT5_M (SOT353, 5-Leads, Body 2x1.3mm, Pitch 0.65mm, Lead Span 2.1mm, IPC Low Density)
pins: 1 NC, 2 GND (power), 3 VOUT (power), 4 VDD (power), 5 NC

## MCP9701-E/TO
designator U?
Low-Power Linear Active Thermistor IC, 3-Pin TO-92, Extended Temperature; Manufacturer: Microchip; PartNumber: MCP9701-E/TO; DatasheetVersion: revE, Apr-2009; PackageVersion: revBB, Aug-2009; PackageReference: TO-92-TO3; PackageDescription: 3-Lead Plastic Transistor Outline (TO) [TO-92]; Supplier 1: Digi-Key; Supplier Part Number 1: MCP9701-E/TO-ND; Mounting Technology: Through Hole; ComponentLink1Description: Manufacturer URL; ComponentLink1URL: http://www.microchip.com/; ComponentLink2Description: Datasheet; ComponentLink2URL: http://ww1.microchip.com/downloads/en/DeviceDoc/21942e.pdf; ComponentLink3Description: Package Specification; ComponentLink3URL: http://www.microchip.com/stellent/groups/techpub_sg/documents/packagingspec/en012702.pdf
footprint TO-92-TO3 (TO, Flat Index; 3 In-Line, Axial Leads; Body Dia. 4.8mm; Leads 0.56 x 0.53 mm (max))
pins: 1 VDD (power), 2 VOUT (power), 3 GND (power)

## MCP9701A-E/TO
designator U?
Low-Power Linear Active Thermistor IC, 3-Pin TO-92, Extended Temperature; Manufacturer: Microchip; PartNumber: MCP9701A-E/TO; DatasheetVersion: revE, Apr-2009; PackageVersion: revBB, Aug-2009; PackageReference: TO-92-TO3; PackageDescription: 3-Lead Plastic Transistor Outline (TO) [TO-92]; Supplier 1: Digi-Key; Supplier Part Number 1: MCP9701A-E/TO-ND; Mounting Technology: Through Hole; ComponentLink1Description: Manufacturer URL; ComponentLink1URL: http://www.microchip.com/; ComponentLink2Description: Datasheet; ComponentLink2URL: http://ww1.microchip.com/downloads/en/DeviceDoc/21942e.pdf; ComponentLink3Description: Package Specification; ComponentLink3URL: http://www.microchip.com/stellent/groups/techpub_sg/documents/packagingspec/en012702.pdf
footprint TO-92-TO3 (TO, Flat Index; 3 In-Line, Axial Leads; Body Dia. 4.8mm; Leads 0.56 x 0.53 mm (max))
pins: 1 VDD (power), 2 VOUT (power), 3 GND (power)

## MCP9701AT-E/LT
designator U?
Low-Power Linear Active Thermistor IC, 5-Pin SC-70, Extended Temperature, Tape and Reel; Manufacturer: Microchip; PartNumber: MCP9701AT-E/LT; DatasheetVersion: revE, Apr-2009; PackageVersion: revBB, Aug-2009; PackageReference: SC70-LT5; PackageDescription: 5-Lead Plastic Small Outline Transistor (LT) [SC70]; Supplier 1: Digi-Key; Supplier Part Number 1: MCP9701AT-E/LTTR-ND; Mounting Technology: Surface Mount; Code_IPC: SOT353-5; ComponentLink1Description: Manufacturer URL; ComponentLink1URL: http://www.microchip.com/; ComponentLink2Description: Datasheet; ComponentLink2URL: http://ww1.microchip.com/downloads/en/DeviceDoc/21942e.pdf; ComponentLink3Description: Package Specification; ComponentLink3URL: http://www.microchip.com/stellent/groups/techpub_sg/documents/packagingspec/en012702.pdf
footprint SC70-LT5_N (SOT353, 5-Leads, Body 2x1.3mm, Pitch 0.65mm, Lead Span 2.1mm, IPC Medium Density)
footprint SC70-LT5_L (SOT353, 5-Leads, Body 2x1.3mm, Pitch 0.65mm, Lead Span 2.1mm, IPC High Density)
footprint SC70-LT5_M (SOT353, 5-Leads, Body 2x1.3mm, Pitch 0.65mm, Lead Span 2.1mm, IPC Low Density)
pins: 1 NC, 2 GND (power), 3 VOUT (power), 4 VDD (power), 5 NC

## MCP9701AT-E/TT
designator U?
Low-Power Linear Active Thermistor IC, 3-Pin SOT-23, Extended Temperature, Tape and Reel; Manufacturer: Microchip; PartNumber: MCP9701AT-E/TT; DatasheetVersion: revE, Apr-2009; PackageVersion: revBB, Aug-2009; PackageReference: SOT-23-TT3; PackageDescription: 3-Lead Plastic Small Outline Transistor (TT) [SOT-23]; Supplier 1: Digi-Key; Supplier Part Number 1: MCP9701AT-E/TTTR-ND; Mounting Technology: Surface Mount; Code_IPC: SOT23-3; ComponentLink1Description: Manufacturer URL; ComponentLink1URL: http://www.microchip.com/; ComponentLink2Description: Datasheet; ComponentLink2URL: http://ww1.microchip.com/downloads/en/DeviceDoc/21942e.pdf; ComponentLink3Description: Package Specification; ComponentLink3URL: http://www.microchip.com/stellent/groups/techpub_sg/documents/packagingspec/en012702.pdf
footprint SOT-23-TT3_N (SOT23, 3-Leads, Body 2.9x1.3mm, Pitch 0.95mm, Lead Span 2.4mm, IPC Medium Density)
footprint SOT-23-TT3_L (SOT23, 3-Leads, Body 2.9x1.3mm, Pitch 0.95mm, Lead Span 2.4mm, IPC High Density)
footprint SOT-23-TT3_M (SOT23, 3-Leads, Body 2.9x1.3mm, Pitch 0.95mm, Lead Span 2.4mm, IPC Low Density)
pins: 1 VDD (power), 2 VOUT (power), 3 GND (power)

## MCP9701T-E/LT
designator U?
Low-Power Linear Active Thermistor IC, 5-Pin SC-70, Extended Temperature, Tape and Reel; Manufacturer: Microchip; PartNumber: MCP9701T-E/LT; DatasheetVersion: revE, Apr-2009; PackageVersion: revBB, Aug-2009; PackageReference: SC70-LT5; PackageDescription: 5-Lead Plastic Small Outline Transistor (LT) [SC70]; Supplier 1: Digi-Key; Supplier Part Number 1: MCP9701T-E/LTTR-ND; Mounting Technology: Surface Mount; Code_IPC: SOT353-5; ComponentLink1Description: Manufacturer URL; ComponentLink1URL: http://www.microchip.com/; ComponentLink2Description: Datasheet; ComponentLink2URL: http://ww1.microchip.com/downloads/en/DeviceDoc/21942e.pdf; ComponentLink3Description: Package Specification; ComponentLink3URL: http://www.microchip.com/stellent/groups/techpub_sg/documents/packagingspec/en012702.pdf
footprint SC70-LT5_N (SOT353, 5-Leads, Body 2x1.3mm, Pitch 0.65mm, Lead Span 2.1mm, IPC Medium Density)
footprint SC70-LT5_L (SOT353, 5-Leads, Body 2x1.3mm, Pitch 0.65mm, Lead Span 2.1mm, IPC High Density)
footprint SC70-LT5_M (SOT353, 5-Leads, Body 2x1.3mm, Pitch 0.65mm, Lead Span 2.1mm, IPC Low Density)
pins: 1 NC, 2 GND (power), 3 VOUT (power), 4 VDD (power), 5 NC

## MCP9701T-E/TT
designator U?
Low-Power Linear Active Thermistor IC, 3-Pin SOT-23, Extended Temperature, Tape and Reel; Manufacturer: Microchip; PartNumber: MCP9701T-E/TT; DatasheetVersion: revE, Apr-2009; PackageVersion: revBB, Aug-2009; PackageReference: SOT-23-TT3; PackageDescription: 3-Lead Plastic Small Outline Transistor (TT) [SOT-23]; Supplier 1: Digi-Key; Supplier Part Number 1: MCP9701T-E/TTTR-ND; Mounting Technology: Surface Mount; Code_IPC: SOT23-3; ComponentLink1Description: Manufacturer URL; ComponentLink1URL: http://www.microchip.com/; ComponentLink2Description: Datasheet; ComponentLink2URL: http://ww1.microchip.com/downloads/en/DeviceDoc/21942e.pdf; ComponentLink3Description: Package Specification; ComponentLink3URL: http://www.microchip.com/stellent/groups/techpub_sg/documents/packagingspec/en012702.pdf
footprint SOT-23-TT3_N (SOT23, 3-Leads, Body 2.9x1.3mm, Pitch 0.95mm, Lead Span 2.4mm, IPC Medium Density)
footprint SOT-23-TT3_L (SOT23, 3-Leads, Body 2.9x1.3mm, Pitch 0.95mm, Lead Span 2.4mm, IPC High Density)
footprint SOT-23-TT3_M (SOT23, 3-Leads, Body 2.9x1.3mm, Pitch 0.95mm, Lead Span 2.4mm, IPC Low Density)
pins: 1 VDD (power), 2 VOUT (power), 3 GND (power)

## MCP9800A0T-M/OT
designator U?
2-Wire High-Accuracy Temperature Sensor, Slave Address 000, 5-Pin SOT-23, -55°C to +125°C Temperature, Tape and Reel; Manufacturer: Microchip; PartNumber: MCP9800A0T-M/OT; DatasheetVersion: revD, Nov-2010; PackageVersion: revBB, Aug-2009; PackageReference: SOT-23-OT5; PackageDescription: 5-Lead Plastic Small Outline Transistor (OT) [SOT-23]; Supplier 1: Digi-Key; Supplier Part Number 1: MCP9800A0T-M/OTTR-ND; Mounting Technology: Surface Mount; Code_IPC: SOT23-5; ComponentLink1Description: Manufacturer URL; ComponentLink1URL: http://www.microchip.com/; ComponentLink2Description: Datasheet; ComponentLink2URL: http://ww1.microchip.com/downloads/en/DeviceDoc/21909d.pdf; ComponentLink3Description: Package Specification; ComponentLink3URL: http://www.microchip.com/stellent/groups/techpub_sg/documents/packagingspec/en012702.pdf
footprint SOT-23-OT5_N (SOT23, 5-Leads, Body 2.9x1.6mm, Pitch 0.95mm, Lead Span 2.7mm, IPC Medium Density)
footprint SOT-23-OT5_L (SOT23, 5-Leads, Body 2.9x1.6mm, Pitch 0.95mm, Lead Span 2.7mm, IPC High Density)
footprint SOT-23-OT5_M (SOT23, 5-Leads, Body 2.9x1.6mm, Pitch 0.95mm, Lead Span 2.7mm, IPC Low Density)
pins: 1 VDD (power), 2 GND (power), 3 ALERT (oc), 4 SCLK (in), 5 SDA (io)

## MCP9800A1T-M/OT
designator U?
2-Wire High-Accuracy Temperature Sensor, Slave Address 001, 5-Pin SOT-23, -55°C to +125°C Temperature, Tape and Reel; Manufacturer: Microchip; PartNumber: MCP9800A1T-M/OT; DatasheetVersion: revD, Nov-2010; PackageVersion: revBB, Aug-2009; PackageReference: SOT-23-OT5; PackageDescription: 5-Lead Plastic Small Outline Transistor (OT) [SOT-23]; Mounting Technology: Surface Mount; Code_IPC: SOT23-5; ComponentLink1Description: Manufacturer URL; ComponentLink1URL: http://www.microchip.com/; ComponentLink2Description: Datasheet; ComponentLink2URL: http://ww1.microchip.com/downloads/en/DeviceDoc/21909d.pdf; ComponentLink3Description: Package Specification; ComponentLink3URL: http://www.microchip.com/stellent/groups/techpub_sg/documents/packagingspec/en012702.pdf
footprint SOT-23-OT5_N (SOT23, 5-Leads, Body 2.9x1.6mm, Pitch 0.95mm, Lead Span 2.7mm, IPC Medium Density)
footprint SOT-23-OT5_L (SOT23, 5-Leads, Body 2.9x1.6mm, Pitch 0.95mm, Lead Span 2.7mm, IPC High Density)
footprint SOT-23-OT5_M (SOT23, 5-Leads, Body 2.9x1.6mm, Pitch 0.95mm, Lead Span 2.7mm, IPC Low Density)
pins: 1 VDD (power), 2 GND (power), 3 ALERT (oc), 4 SCLK (in), 5 SDA (io)

## MCP9800A2T-M/OT
designator U?
2-Wire High-Accuracy Temperature Sensor, Slave Address 010, 5-Pin SOT-23, -55°C to +125°C Temperature, Tape and Reel; Manufacturer: Microchip; PartNumber: MCP9800A2T-M/OT; DatasheetVersion: revD, Nov-2010; PackageVersion: revBB, Aug-2009; PackageReference: SOT-23-OT5; PackageDescription: 5-Lead Plastic Small Outline Transistor (OT) [SOT-23]; Mounting Technology: Surface Mount; Code_IPC: SOT23-5; ComponentLink1Description: Manufacturer URL; ComponentLink1URL: http://www.microchip.com/; ComponentLink2Description: Datasheet; ComponentLink2URL: http://ww1.microchip.com/downloads/en/DeviceDoc/21909d.pdf; ComponentLink3Description: Package Specification; ComponentLink3URL: http://www.microchip.com/stellent/groups/techpub_sg/documents/packagingspec/en012702.pdf
footprint SOT-23-OT5_N (SOT23, 5-Leads, Body 2.9x1.6mm, Pitch 0.95mm, Lead Span 2.7mm, IPC Medium Density)
footprint SOT-23-OT5_L (SOT23, 5-Leads, Body 2.9x1.6mm, Pitch 0.95mm, Lead Span 2.7mm, IPC High Density)
footprint SOT-23-OT5_M (SOT23, 5-Leads, Body 2.9x1.6mm, Pitch 0.95mm, Lead Span 2.7mm, IPC Low Density)
pins: 1 VDD (power), 2 GND (power), 3 ALERT (oc), 4 SCLK (in), 5 SDA (io)

## MCP9800A3T-M/OT
designator U?
2-Wire High-Accuracy Temperature Sensor, Slave Address 011, 5-Pin SOT-23, -55°C to +125°C Temperature, Tape and Reel; Manufacturer: Microchip; PartNumber: MCP9800A3T-M/OT; DatasheetVersion: revD, Nov-2010; PackageVersion: revBB, Aug-2009; PackageReference: SOT-23-OT5; PackageDescription: 5-Lead Plastic Small Outline Transistor (OT) [SOT-23]; Mounting Technology: Surface Mount; Code_IPC: SOT23-5; ComponentLink1Description: Manufacturer URL; ComponentLink1URL: http://www.microchip.com/; ComponentLink2Description: Datasheet; ComponentLink2URL: http://ww1.microchip.com/downloads/en/DeviceDoc/21909d.pdf; ComponentLink3Description: Package Specification; ComponentLink3URL: http://www.microchip.com/stellent/groups/techpub_sg/documents/packagingspec/en012702.pdf
footprint SOT-23-OT5_N (SOT23, 5-Leads, Body 2.9x1.6mm, Pitch 0.95mm, Lead Span 2.7mm, IPC Medium Density)
footprint SOT-23-OT5_L (SOT23, 5-Leads, Body 2.9x1.6mm, Pitch 0.95mm, Lead Span 2.7mm, IPC High Density)
footprint SOT-23-OT5_M (SOT23, 5-Leads, Body 2.9x1.6mm, Pitch 0.95mm, Lead Span 2.7mm, IPC Low Density)
pins: 1 VDD (power), 2 GND (power), 3 ALERT (oc), 4 SCLK (in), 5 SDA (io)

## MCP9800A4T-M/OT
designator U?
2-Wire High-Accuracy Temperature Sensor, Slave Address 100, 5-Pin SOT-23, -55°C to +125°C Temperature, Tape and Reel; Manufacturer: Microchip; PartNumber: MCP9800A4T-M/OT; DatasheetVersion: revD, Nov-2010; PackageVersion: revBB, Aug-2009; PackageReference: SOT-23-OT5; PackageDescription: 5-Lead Plastic Small Outline Transistor (OT) [SOT-23]; Mounting Technology: Surface Mount; Code_IPC: SOT23-5; ComponentLink1Description: Manufacturer URL; ComponentLink1URL: http://www.microchip.com/; ComponentLink2Description: Datasheet; ComponentLink2URL: http://ww1.microchip.com/downloads/en/DeviceDoc/21909d.pdf; ComponentLink3Description: Package Specification; ComponentLink3URL: http://www.microchip.com/stellent/groups/techpub_sg/documents/packagingspec/en012702.pdf
footprint SOT-23-OT5_N (SOT23, 5-Leads, Body 2.9x1.6mm, Pitch 0.95mm, Lead Span 2.7mm, IPC Medium Density)
footprint SOT-23-OT5_L (SOT23, 5-Leads, Body 2.9x1.6mm, Pitch 0.95mm, Lead Span 2.7mm, IPC High Density)
footprint SOT-23-OT5_M (SOT23, 5-Leads, Body 2.9x1.6mm, Pitch 0.95mm, Lead Span 2.7mm, IPC Low Density)
pins: 1 VDD (power), 2 GND (power), 3 ALERT (oc), 4 SCLK (in), 5 SDA (io)

## MCP9800A5T-M/OT
designator U?
2-Wire High-Accuracy Temperature Sensor, Slave Address 101, 5-Pin SOT-23, -55°C to +125°C Temperature, Tape and Reel; Manufacturer: Microchip; PartNumber: MCP9800A5T-M/OT; DatasheetVersion: revD, Nov-2010; PackageVersion: revBB, Aug-2009; PackageReference: SOT-23-OT5; PackageDescription: 5-Lead Plastic Small Outline Transistor (OT) [SOT-23]; Supplier 1: Digi-Key; Supplier Part Number 1: MCP9800A5T-M/OTTR-ND; Mounting Technology: Surface Mount; Code_IPC: SOT23-5; ComponentLink1Description: Manufacturer URL; ComponentLink1URL: http://www.microchip.com/; ComponentLink2Description: Datasheet; ComponentLink2URL: http://ww1.microchip.com/downloads/en/DeviceDoc/21909d.pdf; ComponentLink3Description: Package Specification; ComponentLink3URL: http://www.microchip.com/stellent/groups/techpub_sg/documents/packagingspec/en012702.pdf
footprint SOT-23-OT5_N (SOT23, 5-Leads, Body 2.9x1.6mm, Pitch 0.95mm, Lead Span 2.7mm, IPC Medium Density)
footprint SOT-23-OT5_L (SOT23, 5-Leads, Body 2.9x1.6mm, Pitch 0.95mm, Lead Span 2.7mm, IPC High Density)
footprint SOT-23-OT5_M (SOT23, 5-Leads, Body 2.9x1.6mm, Pitch 0.95mm, Lead Span 2.7mm, IPC Low Density)
pins: 1 VDD (power), 2 GND (power), 3 ALERT (oc), 4 SCLK (in), 5 SDA (io)

## MCP9800A6T-M/OT
designator U?
2-Wire High-Accuracy Temperature Sensor, Slave Address 110, 5-Pin SOT-23, -55°C to +125°C Temperature, Tape and Reel; Manufacturer: Microchip; PartNumber: MCP9800A6T-M/OT; DatasheetVersion: revD, Nov-2010; PackageVersion: revBB, Aug-2009; PackageReference: SOT-23-OT5; PackageDescription: 5-Lead Plastic Small Outline Transistor (OT) [SOT-23]; Mounting Technology: Surface Mount; Code_IPC: SOT23-5; ComponentLink1Description: Manufacturer URL; ComponentLink1URL: http://www.microchip.com/; ComponentLink2Description: Datasheet; ComponentLink2URL: http://ww1.microchip.com/downloads/en/DeviceDoc/21909d.pdf; ComponentLink3Description: Package Specification; ComponentLink3URL: http://www.microchip.com/stellent/groups/techpub_sg/documents/packagingspec/en012702.pdf
footprint SOT-23-OT5_N (SOT23, 5-Leads, Body 2.9x1.6mm, Pitch 0.95mm, Lead Span 2.7mm, IPC Medium Density)
footprint SOT-23-OT5_L (SOT23, 5-Leads, Body 2.9x1.6mm, Pitch 0.95mm, Lead Span 2.7mm, IPC High Density)
footprint SOT-23-OT5_M (SOT23, 5-Leads, Body 2.9x1.6mm, Pitch 0.95mm, Lead Span 2.7mm, IPC Low Density)
pins: 1 VDD (power), 2 GND (power), 3 ALERT (oc), 4 SCLK (in), 5 SDA (io)